# EAGLE library part TXS0102 (library custom-devices)
2x Channel Level-Shifter
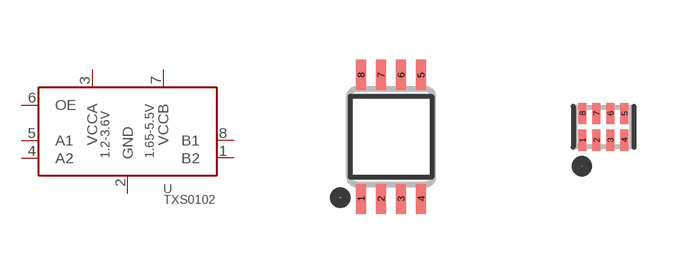
[diagram p10: symbol with the pads of VFSOP08; footprints VFSOP08, XFDFN08_1.4X1.0]

Designator prefix U

## TXS0102_DCU (DIGI-KEY: 296-21931-1-ND)  [VFSOP08]
1  B2
2  GND  pwr
3  VCCA  pwr
4  A2
5  A1
6  OE
7  VCCB  pwr
8  B1

## TXS0102_DQE (DIGI-KEY: 296-28368-1-ND; MOUSER: 595-TXS0102DQER)  [XFDFN08_1.4X1.0]
1  VCCA  pwr
2  A1
3  A2
4  GND  pwr
5  OE
6  B2
7  B1
8  VCCB  pwr

## TXS0102_DQM (DIGI-KEY: 296-28435-1-ND)  [XFDFN08_1.8X1.2]
Pads as for XFDFN08_1.4X1.0

## Footprint VFSOP08 (pad centres in mm)
smd 0.25 x 0.75: 1 -0.75,-1.55; 2 -0.25,-1.55; 3 0.25,-1.55; 4 0.75,-1.55; 5 0.75,1.55; 6 0.25,1.55; 7 -0.25,1.55; 8 -0.75,1.55

## Footprint XFDFN08_1.4X1.0 (pad centres in mm)
smd 0.2 x 0.53: 1 -0.525,-0.335; 2 -0.175,-0.335; 3 0.175,-0.335; 4 0.525,-0.335; 5 0.525,0.335; 6 0.175,0.335; 7 -0.175,0.335; 8 -0.525,0.335

## Footprint XFDFN08_1.8X1.2 (pad centres in mm)
smd 0.2 x 0.7: 1 -0.6,-0.45; 2 -0.2,-0.45; 3 0.2,-0.45; 4 0.6,-0.45; 5 0.6,0.45; 6 0.2,0.45; 7 -0.2,0.45; 8 -0.6,0.45